# EAGLE library part PINHD-2X6 (library pinheadHB)
PIN HEADER
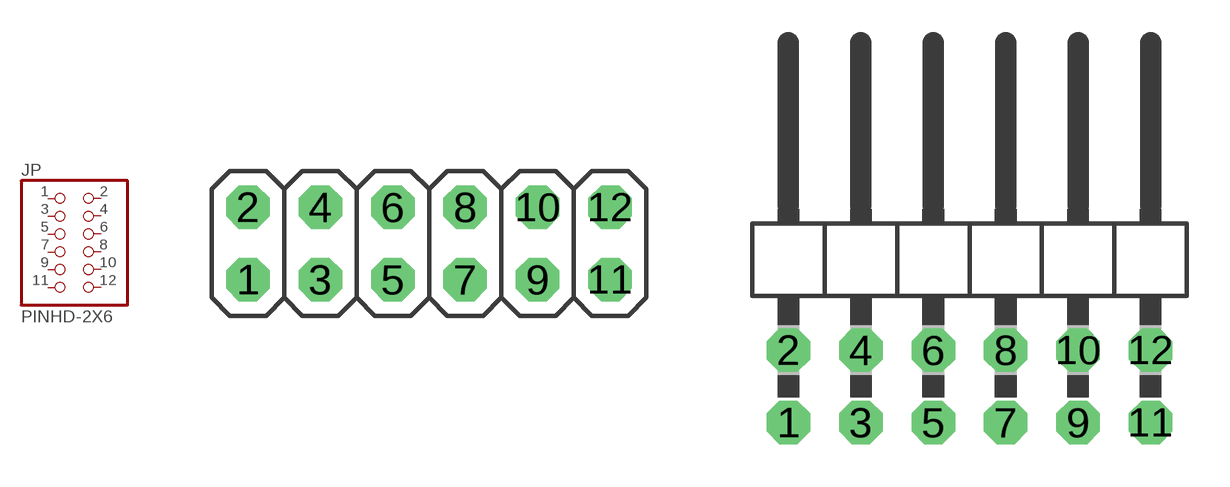
[diagram p30: symbol with the pads of 2X06; footprints 2X06, 2X06/90]

Designator prefix JP

## PINHD-2X6  [2X06]
1  1  pas
2  2  pas
3  3  pas
4  4  pas
5  5  pas
6  6  pas
7  7  pas
8  8  pas
9  9  pas
10  10  pas
11  11  pas
12  12  pas

## PINHD-2X6/90  [2X06/90]
Pads as for 2X06

## Footprint 2X06 (pad centres in mm)
PIN HEADER
drill 1.016 octagon: 1 -6.35,-1.27; 2 -6.35,1.27; 3 -3.81,-1.27; 4 -3.81,1.27; 5 -1.27,-1.27; 6 -1.27,1.27; 7 1.27,-1.27; 8 1.27,1.27; 9 3.81,-1.27; 10 3.81,1.27; 11 6.35,-1.27; 12 6.35,1.27

## Footprint 2X06/90 (pad centres in mm)
PIN HEADER
drill 1.016 octagon: 1 -6.35,-6.35; 2 -6.35,-3.81; 3 -3.81,-6.35; 4 -3.81,-3.81; 5 -1.27,-6.35; 6 -1.27,-3.81; 7 1.27,-6.35; 8 1.27,-3.81; 9 3.81,-6.35; 10 3.81,-3.81; 11 6.35,-6.35; 12 6.35,-3.81